# EAGLE library part DSPIC33EP256MC50 (library _MyComponents)
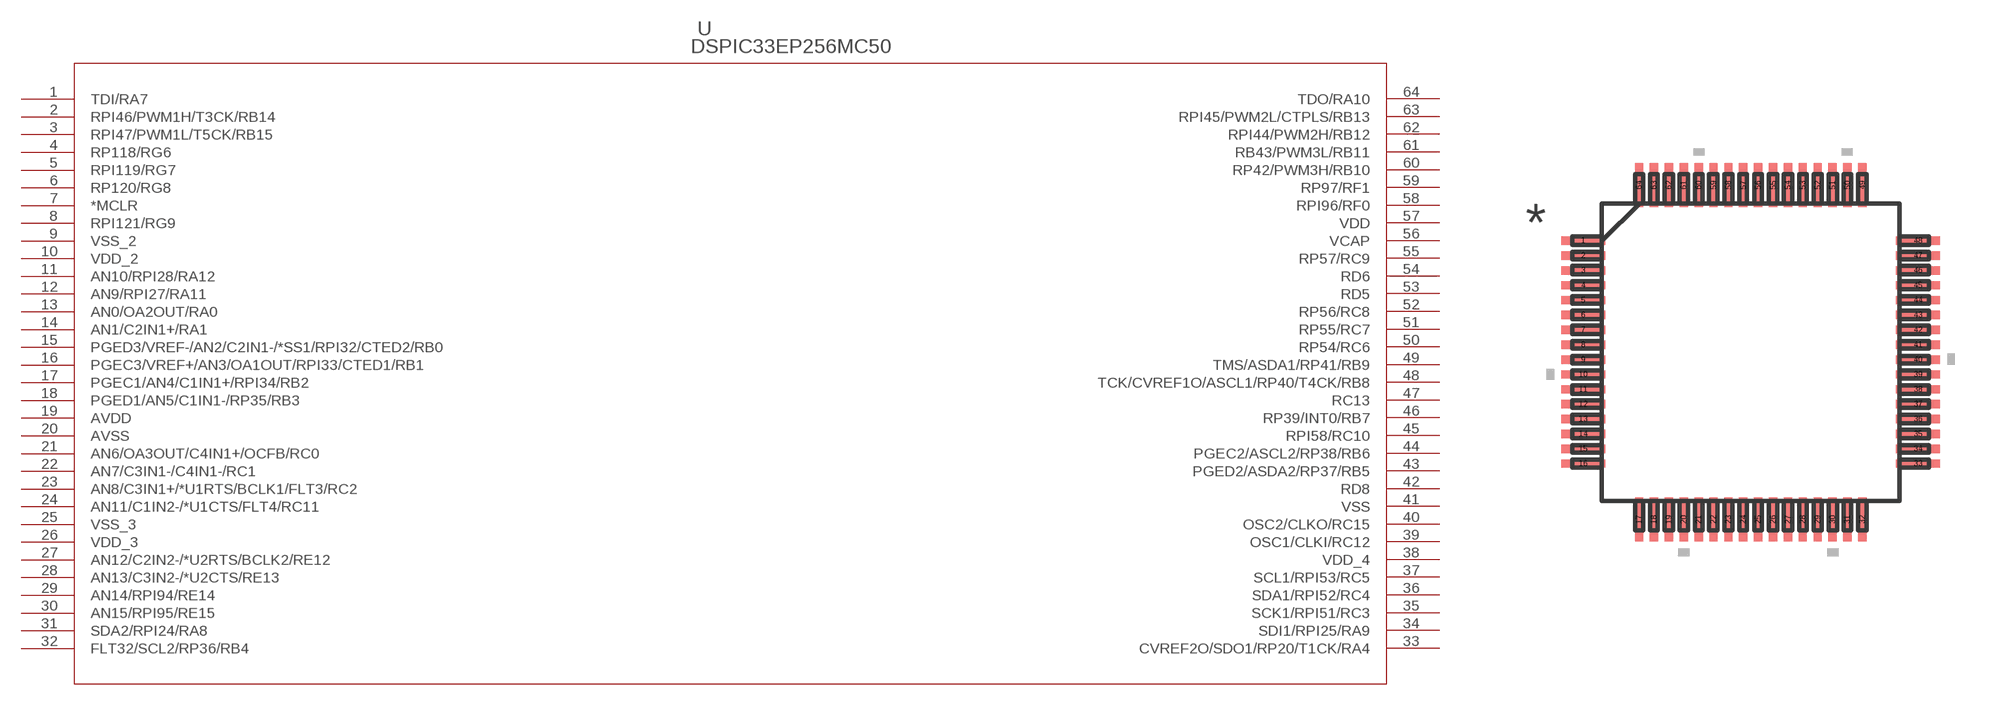
[diagram p12: symbol with the pads of QFP64-10X10MC; footprint QFP64-10X10MC]

Designator prefix -

## DSPIC33EP256MC50  [QFP64-10X10MC]
1  TDI/RA7  pas
2  RPI46/PWM1H/T3CK/RB14  pas
3  RPI47/PWM1L/T5CK/RB15  pas
4  RP118/RG6  pas
5  RPI119/RG7  pas
6  RP120/RG8  pas
7  *MCLR  pas
8  RPI121/RG9  pas
9  VSS_2  pas
10  VDD_2  pas
11  AN10/RPI28/RA12  pas
12  AN9/RPI27/RA11  pas
13  AN0/OA2OUT/RA0  pas
14  AN1/C2IN1+/RA1  pas
15  PGED3/VREF-/AN2/C2IN1-/*SS1/RPI32/CTED2/RB0  pas
16  PGEC3/VREF+/AN3/OA1OUT/RPI33/CTED1/RB1  pas
17  PGEC1/AN4/C1IN1+/RPI34/RB2  pas
18  PGED1/AN5/C1IN1-/RP35/RB3  pas
19  AVDD  pas
20  AVSS  pas
21  AN6/OA3OUT/C4IN1+/OCFB/RC0  pas
22  AN7/C3IN1-/C4IN1-/RC1  pas
23  AN8/C3IN1+/*U1RTS/BCLK1/FLT3/RC2  pas
24  AN11/C1IN2-/*U1CTS/FLT4/RC11  pas
25  VSS_3  pas
26  VDD_3  pas
27  AN12/C2IN2-/*U2RTS/BCLK2/RE12  pas
28  AN13/C3IN2-/*U2CTS/RE13  pas
29  AN14/RPI94/RE14  pas
30  AN15/RPI95/RE15  pas
31  SDA2/RPI24/RA8  pas
32  FLT32/SCL2/RP36/RB4  pas
33  CVREF2O/SDO1/RP20/T1CK/RA4  pas
34  SDI1/RPI25/RA9  pas
35  SCK1/RPI51/RC3  pas
36  SDA1/RPI52/RC4  pas
37  SCL1/RPI53/RC5  pas
38  VDD_4  pas
39  OSC1/CLKI/RC12  pas
40  OSC2/CLKO/RC15  pas
41  VSS  pas
42  RD8  pas
43  PGED2/ASDA2/RP37/RB5  pas
44  PGEC2/ASCL2/RP38/RB6  pas
45  RPI58/RC10  pas
46  RP39/INT0/RB7  pas
47  RC13  pas
48  TCK/CVREF1O/ASCL1/RP40/T4CK/RB8  pas
49  TMS/ASDA1/RP41/RB9  pas
50  RP54/RC6  pas
51  RP55/RC7  pas
52  RP56/RC8  pas
53  RD5  pas
54  RD6  pas
55  RP57/RC9  pas
56  VCAP  pas
57  VDD  pas
58  RPI96/RF0  pas
59  RP97/RF1  pas
60  RP42/PWM3H/RB10  pas
61  RB43/PWM3L/RB11  pas
62  RPI44/PWM2H/RB12  pas
63  RPI45/PWM2L/CTPLS/RB13  pas
64  TDO/RA10  pas

## Footprint QFP64-10X10MC (pad centres in mm)
smd 1.473 x 0.279: 1 -5.625,3.75; 2 -5.625,3.25; 3 -5.625,2.75; 4 -5.625,2.25; 5 -5.625,1.75; 6 -5.625,1.25; 7 -5.625,0.75; 8 -5.625,0.25; 9 -5.625,-0.25; 10 -5.625,-0.75; 11 -5.625,-1.25; 12 -5.625,-1.75; 13 -5.625,-2.25; 14 -5.625,-2.75; 15 -5.625,-3.25; 16 -5.625,-3.75; 33 5.625,-3.75; 34 5.625,-3.25; 35 5.625,-2.75; 36 5.625,-2.25; 37 5.625,-1.75; 38 5.625,-1.25; 39 5.625,-0.75; 40 5.625,-0.25; 41 5.625,0.25; 42 5.625,0.75; 43 5.625,1.25; 44 5.625,1.75; 45 5.625,2.25; 46 5.625,2.75; 47 5.625,3.25; 48 5.625,3.75
smd 0.279 x 1.473: 17 -3.75,-5.625; 18 -3.25,-5.625; 19 -2.75,-5.625; 20 -2.25,-5.625; 21 -1.75,-5.625; 22 -1.25,-5.625; 23 -0.75,-5.625; 24 -0.25,-5.625; 25 0.25,-5.625; 26 0.75,-5.625; 27 1.25,-5.625; 28 1.75,-5.625; 29 2.25,-5.625; 30 2.75,-5.625; 31 3.25,-5.625; 32 3.75,-5.625; 49 3.75,5.625; 50 3.25,5.625; 51 2.75,5.625; 52 2.25,5.625; 53 1.75,5.625; 54 1.25,5.625; 55 0.75,5.625; 56 0.25,5.625; 57 -0.25,5.625; 58 -0.75,5.625; 59 -1.25,5.625; 60 -1.75,5.625; 61 -2.25,5.625; 62 -2.75,5.625; 63 -3.25,5.625; 64 -3.75,5.625